# EAGLE library part AK130/22 (library PTR_AK130)
ANSCHLUSSKLEMME AK130 (22POLIG)
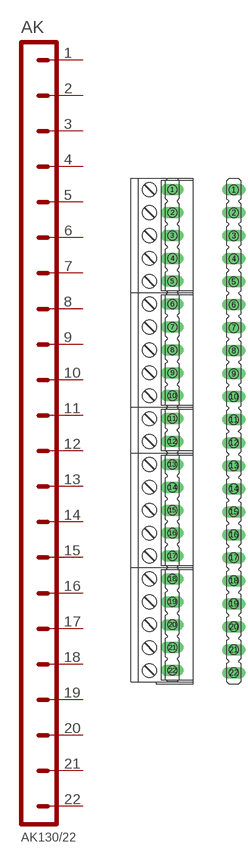
[diagram p16: symbol with the pads of AK22; footprints AK22, STL22]

Designator prefix AK

## AK130/22  [AK22]
1  P$1
2  P$2
3  P$3
4  P$4
5  P$5
6  P$6
7  P$7
8  P$8
9  P$9
10  P$10
11  P$11
12  P$12
13  P$13
14  P$14
15  P$15
16  P$16
17  P$17
18  P$18
19  P$19
20  P$20
21  P$21
22  P$22

## AK130/22_STL  [STL22]
Pads as for AK22

## Footprint AK22 (pad centres in mm)
AK130 (22POLIG) 1x AK130/2-5.0-GRAU 4x AK130/5-5.0-GRAU STL130/24-5.0-V-SCHWARZ
drill 1.5 pad 2.54 long: 1 0,52.5; 2 0,47.5; 3 0,42.5; 4 0,37.5; 5 0,32.5; 6 0,27.5; 7 0,22.5; 8 0,17.5; 9 0,12.5; 10 0,7.5; 11 0,2.5; 12 0,-2.5; 13 0,-7.5; 14 0,-12.5; 15 0,-17.5; 16 0,-22.5; 17 0,-27.5; 18 0,-32.5; 19 0,-37.5; 20 0,-42.5; 21 0,-47.5; 22 0,-52.5

## Footprint STL22 (pad centres in mm)
STL130 (22POLIG) STL130/24-5.0-V-SCHWARZ
drill 1.5 pad 2.54 long: 1 0,52.5; 2 0,47.5; 3 0,42.5; 4 0,37.5; 5 0,32.5; 6 0,27.5; 7 0,22.5; 8 0,17.5; 9 0,12.5; 10 0,7.5; 11 0,2.5; 12 0,-2.5; 13 0,-7.5; 14 0,-12.5; 15 0,-17.5; 16 0,-22.5; 17 0,-27.5; 18 0,-32.5; 19 0,-37.5; 20 0,-42.5; 21 0,-47.5; 22 0,-52.5